# Altium footprint library BiciMaps_3.PcbLib: 28 footprints (part 2 of 2)
Each footprint in its own frame and in the unit in brackets; x right, y up, seen from the top. Pads: shape width x height; smd on the part's side, far side on the other; paste and mask are expansions set on the pad; w line width, h text height; cw(c..) or ccw(c..) is an arc to the next point about the centre after c.
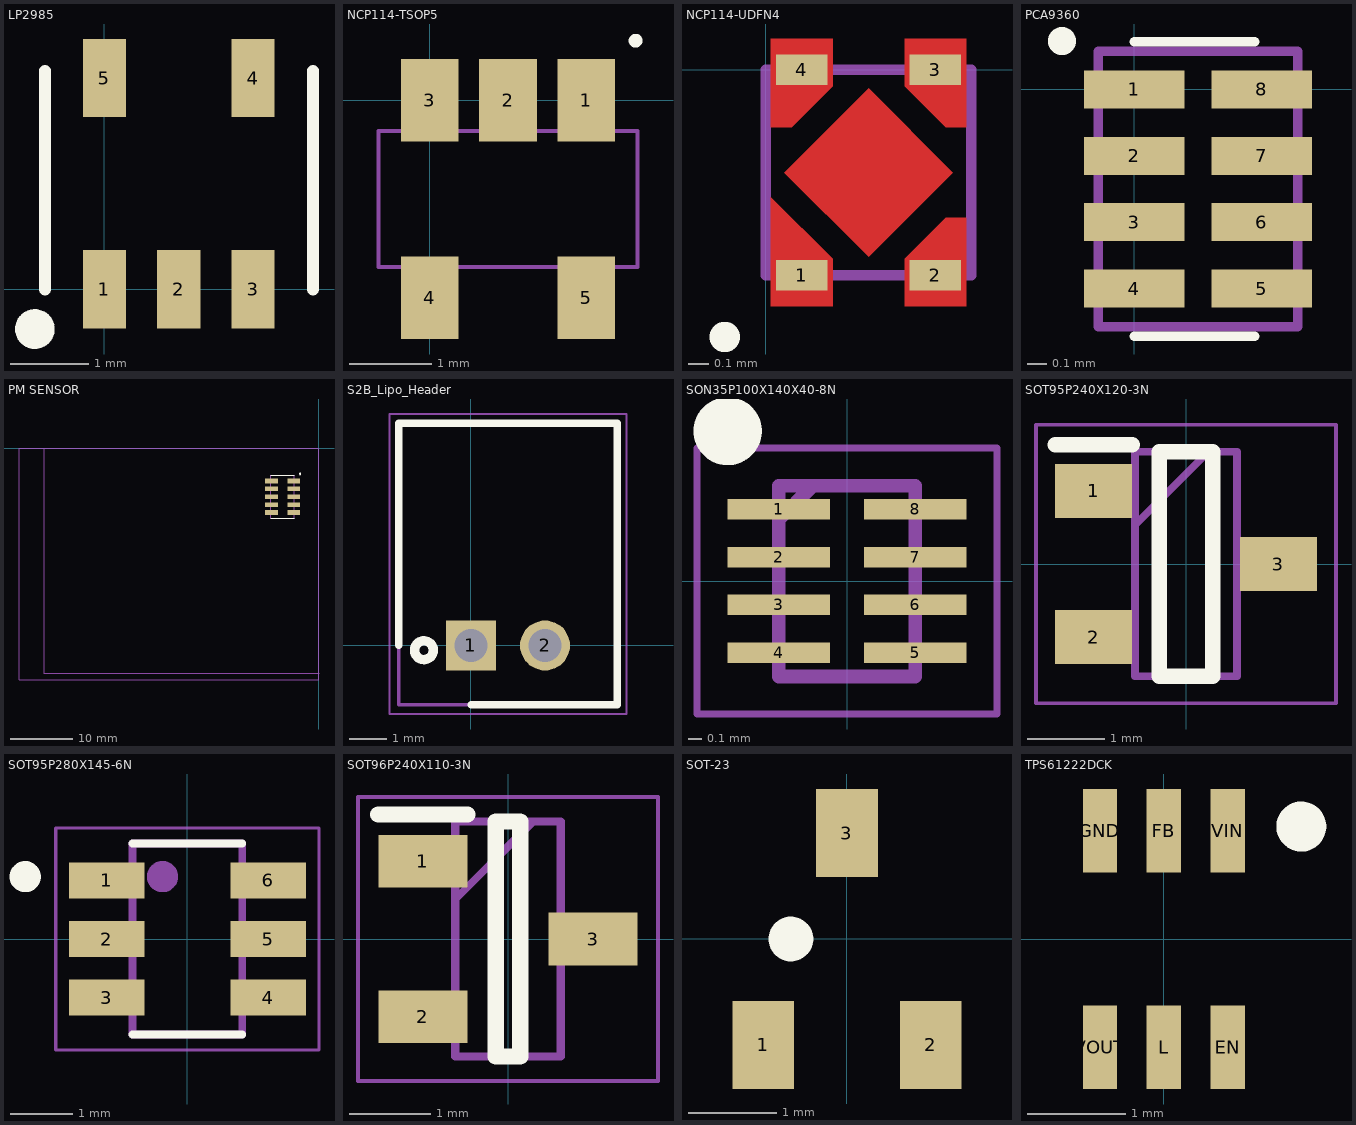
[diagram p1: the footprints below, top view; thin cyan lines are the x and y axes]

## LP2985 [mm]
pads (5):
  rect 0.55x1 smd: 1(0,0) 2(0.95,0) 3(1.9,0) 4(1.9,2.7) 5(0,2.7)
Top Overlay:
  circle w0.254: c-0.889,-0.508 r0.127
  lines w0.152: -0.762,0 -0.762,2.794 ; 2.667,0 2.667,2.794

## NCP114-TSOP5 [mm]
pads (5):
  rect 0.7x1 smd: 1(1.9,0) 2(0.95,0) 3(0,0) 4(0,-2.4) 5(1.9,-2.4)
Top Overlay:
  circle w0.127: c2.5,0.725 r0.02
Mechanical 15:
  lines w0.05: -0.625,-2.025 -0.625,-0.375 2.525,-0.375 2.525,-2.025 -0.625,-2.025

## NCP114-UDFN4 [mm]
pads (4):
  rect 0.25x0.15 smd mask-0.102: 1(0.175,-1) 2(0.825,-1) 3(0.825,0) 4(0.175,0)
Top Layer:
  region: 0.09,-0.5 0.5,-0.91 0.91,-0.5 0.5,-0.09
  region: 0.025,-0.28 0.025,0.15 0.325,0.15 0.325,-0.08 0.125,-0.28
  region: 0.975,-0.28 0.975,0.15 0.675,0.15 0.675,-0.08 0.875,-0.28
  region: 0.975,-0.72 0.975,-1.15 0.675,-1.15 0.675,-0.92 0.875,-0.72
  region: 0.025,-0.72 0.025,-1.15 0.325,-1.15 0.325,-0.92 0.025,-0.62
Top Overlay:
  lines w0.127: -0.19,-1.3 cw(c-0.2,-1.3) -0.19,-1.298
Mechanical 15:
  lines w0.05: 0,-1 1,-1 1,0 0,0 0,-1

## PCA9360 [mm]
pads (8):
  rect 0.53x0.2 smd mask+0.05: 1(0,0) 2(0,-0.35) 3(0,-0.7) 4(0,-1.05) 5(0.67,-1.05) 6(0.67,-0.7) 7(0.67,-0.35) 8(0.67,0)
Top Overlay:
  circle w0.127: c-0.381,0.254 r0.01
  lines w0.05: 0,-1.3 0.635,-1.3 ; 0,0.25 0.635,0.25
Mechanical 15:
  lines w0.05: -0.19,-1.25 -0.19,0.2 0.86,0.2 0.86,-1.25 -0.19,-1.25

## PM SENSOR [mm]
pads (11):
  rect 2.05x0.76 smd: 1(-4.025,-5.2) 2(-7.575,-5.2) 2(-7.575,-5.2) 3(-4.025,-6.47) 4(-7.575,-6.47) 5(-4.025,-7.74) 6(-7.575,-7.74) 7(-4.025,-9.01) 8(-7.575,-9.01) 9(-4.025,-10.28) 10(-7.575,-10.28)
Top Overlay:
  circle w0.2: c-3.023,-4.089 r0.1
  lines w0.05: -7.696,-11.151 -3.937,-11.151 ; -7.696,-4.318 -3.937,-4.318
Mechanical 15:
  lines w0.05: -44.025,0 -44.025,-36 0,-36 ; -7.696,-11.151 -7.696,-4.318 ; -3.937,-11.151 -3.937,-4.318 ; -48,-37 -48,0 0,0 0,-37 -48,-37

## S2B_Lipo_Header [mm]
pads (2):
  rect 1.35x1.35 / inner round 1.35 / far side rect 1.35x1.35 hole 0.9: 1(0,0)
  round 1.35 hole 0.9: 2(2,0)
Top Overlay:
  circle w0.254: c-1.27,-0.127 r0.254
  lines w0.2: -1.95,0 -1.95,6 3.95,6 3.95,-1.6 0,-1.6
Mechanical 15:
  lines w0.1: -1.95,-1.6 3.95,-1.6 3.95,6 -1.95,6 -1.95,-1.6
Mechanical 20:
  lines w0.05: -2.2,-1.85 4.2,-1.85 4.2,6.25 -2.2,6.25 -2.2,-1.85

## SON35P100X140X40-8N [mm]
pads (8):
  rect 0.75x0.15 smd: 1(-0.5,0.525) 2(-0.5,0.175) 3(-0.5,-0.175) 4(-0.5,-0.525) 5(0.5,-0.525) 6(0.5,-0.175) 7(0.5,0.175) 8(0.5,0.525)
Top Overlay:
  circle w0.25: c-0.875,1.1 r0.125
Mechanical 13:
  lines w0.1: -0.5,0.45 -0.25,0.7 ; -0.5,-0.7 -0.5,0.7 0.5,0.7 0.5,-0.7 -0.5,-0.7
Mechanical 15:
  lines w0.05: -1.1,-0.975 -1.1,0.975 1.1,0.975 1.1,-0.975 -1.1,-0.975
3D body "PCA9306DQER.stp": height 0.4, standoff 0, extent -0.55,-0.7 0.55,0.7

## SOT95P240X120-3N [mm]
pads (3):
  rect 1x0.7 smd: 1(-1.2,0.95) 2(-1.2,-0.95) 3(1.2,0)
Top Overlay:
  lines w0.2: -1.7,1.55 -0.7,1.55 ; -0.35,-1.46 -0.35,1.46 0.35,1.46 0.35,-1.46 -0.35,-1.46
Mechanical 13:
  lines w0.1: -0.662,0.51 0.288,1.46 ; -0.662,-1.46 -0.662,1.46 0.662,1.46 0.662,-1.46 -0.662,-1.46
Mechanical 15:
  lines w0.05: -1.95,-1.81 -1.95,1.81 1.95,1.81 1.95,-1.81 -1.95,-1.81
3D body "BSS138.stp": height 1.2, standoff 0, extent -1.2,-1.46 1.2,1.46

## SOT95P280X145-6N [mm]
pads (6):
  rect 1.21x0.58 smd: 1(-1.295,0.94) 2(-1.295,0) 3(-1.295,-0.94) 4(1.295,-0.94) 5(1.295,0) 6(1.295,0.94)
Top Overlay:
  circle w0.3: c-2.6,1 r0.1
  lines w0.127: -0.88,-1.53 0.88,-1.53 ; -0.88,1.53 0.88,1.53
Mechanical 4:
  circle w0.3: c-0.4,1 r0.1
  circle w0.3: c-0.4,1 r0.1
  lines w0.127: -0.88,-1.53 0.88,-1.53 ; -0.88,-1.53 -0.88,1.53 ; -0.88,-1.53 0.88,-1.53 ; -0.88,-1.53 -0.88,1.53 ; -0.88,1.53 0.88,1.53 ; -0.88,1.53 0.88,1.53 ; 0.88,-1.53 0.88,1.53 ; 0.88,-1.53 0.88,1.53
Mechanical 16:
  lines w0.05: -2.11,-1.78 2.11,-1.78 2.11,1.78 -2.11,1.78 -2.11,-1.78
3D body: height 1.4, standoff -1.4, extent 0,0 0,0
3D body "AP5100WG-7--3DModel-STEP-56544.STEP": height 0.4, standoff -0.8, extent -1.365,-1.5 1.435,1.5

## SOT96P240X110-3N [mm]
pads (3):
  rect 1.1x0.65 smd: 1(-1.05,0.96) 2(-1.05,-0.96) 3(1.05,0)
Top Overlay:
  lines w0.2: -1.6,1.535 -0.5,1.535 ; -0.15,-1.45 0.15,-1.45 0.15,1.45 -0.15,1.45 -0.15,-1.45
Mechanical 15:
  lines w0.1: -0.65,0.49 0.31,1.45 ; -0.65,-1.45 0.65,-1.45 0.65,1.45 -0.65,1.45 -0.65,-1.45
Mechanical 20:
  lines w0.05: -1.85,-1.75 1.85,-1.75 1.85,1.75 -1.85,1.75 -1.85,-1.75

## SOT-23 [mm]
pads (3):
  rect 0.7x1 smd: 1(-0.95,-1.2) 2(0.95,-1.2) 3(0,1.2)
Top Overlay:
  circle w0.254: c-0.635,0 r0.127

## TPS61222DCK [mm]
pads (6):
  rect 0.35x0.85 smd: EN(0.65,-1.1) FB(0,1.1) GND(-0.65,1.1) L(0,-1.1) VIN(0.65,1.1) VOUT(-0.65,-1.1)
Top Overlay:
  circle w0.254: c1.397,1.143 r0.127